# EAGLE library part XRT6164CD-F (library Exar_By_element14_Batch_1)
Digital Line Interface Transceiver
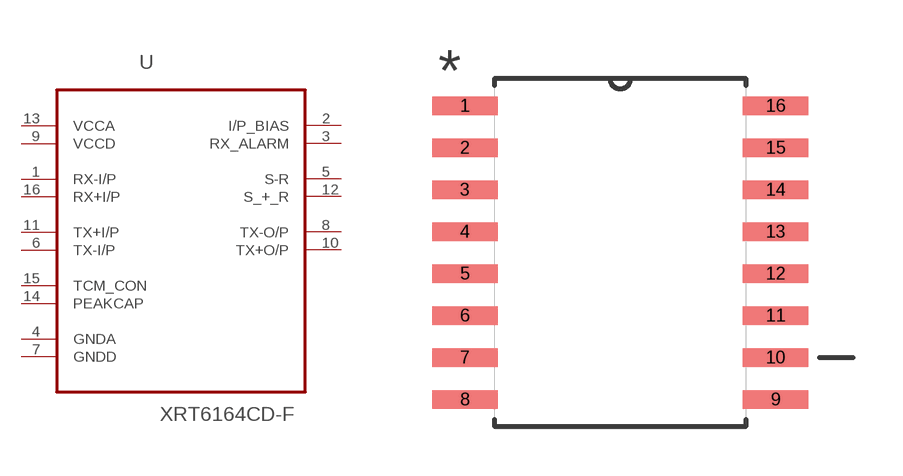
[diagram p106: symbol with the pads of SOIC127P1032X265-16N; footprint SOIC127P1032X265-16N]

Designator prefix U

## XRT6164CD-F (MPN: XRT6164CD-F; OC_FARNELL: 1798678; OC_NEWARK: 24R1702; PACKAGE: SOIC-16; SUPPLIER: Exar)  [SOIC127P1032X265-16N]
1  RX-I/P  in
2  I/P_BIAS  out
3  RX_ALARM  out
4  GNDA  pas
5  S-R  out
6  TX-I/P  in
7  GNDD  pas
8  TX-O/P  out
9  VCCD  pwr
10  TX+O/P  out
11  TX+I/P  in
12  S_+_R  out
13  VCCA  pwr
14  PEAKCAP  pas
15  TCM_CON  in
16  RX+I/P  in

## Footprint SOIC127P1032X265-16N (pad centres in mm)
smd 1.981 x 0.559: 1 -4.699,4.445; 2 -4.699,3.175; 3 -4.699,1.905; 4 -4.699,0.635; 5 -4.699,-0.635; 6 -4.699,-1.905; 7 -4.699,-3.175; 8 -4.699,-4.445; 9 4.699,-4.445; 10 4.699,-3.175; 11 4.699,-1.905; 12 4.699,-0.635; 13 4.699,0.635; 14 4.699,1.905; 15 4.699,3.175; 16 4.699,4.445